# EAGLE library part POT_RK27 (library wheat)
POT, STEREO, ALPS RK27 TYPE
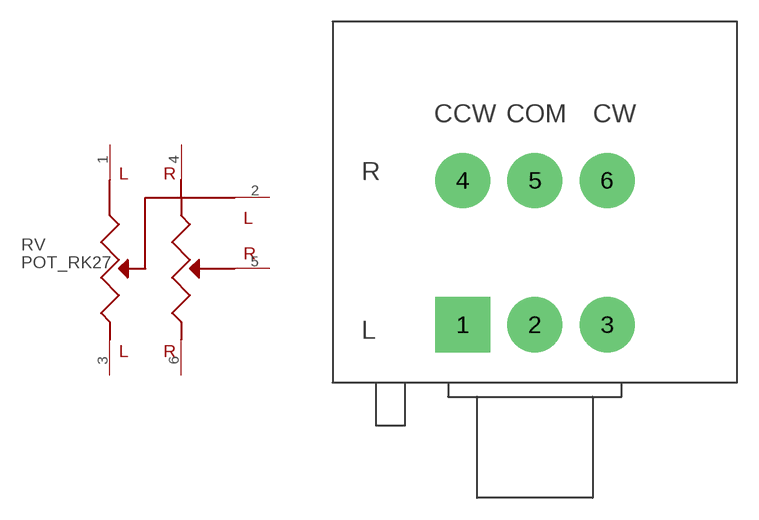
[diagram p2: symbol with the pads of POT_RK27; footprint POT_RK27]

Designator prefix RV

## POT_RK27  [POT_RK27]
1  1  pas
2  2  pas
3  3  pas
4  4  pas
5  5  pas
6  6  pas

## Footprint POT_RK27 (pad centres in mm)
POT, STEREO, ALPS TYPE RK27
drill 1.27 pad 3.81 square: 1 -5,5
drill 1.27 pad 3.81: 2 0,5; 3 5,5; 4 -5,15; 5 0,15; 6 5,15